# Altium footprint library Lib.PcbLib: 18 footprints (part 2 of 2)
Each footprint in its own frame and in the unit in brackets; x right, y up, seen from the top. Pads: shape width x height; smd on the part's side, far side on the other; paste and mask are expansions set on the pad; w line width, h text height; cw(c..) or ccw(c..) is an arc to the next point about the centre after c.
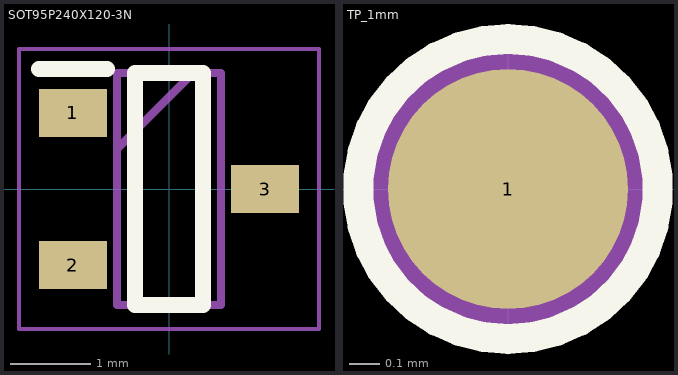
[diagram p1: the footprints below, top view; thin cyan lines are the x and y axes]

## SOT95P240X120-3N [mm]
pads (3):
  rect 0.85x0.6 smd: 1(-1.2,0.95) 2(-1.2,-0.95) 3(1.2,0)
Top Overlay:
  lines w0.2: -1.625,1.5 -0.775,1.5 ; -0.425,-1.45 -0.425,1.45 0.425,1.45 0.425,-1.45 -0.425,-1.45
Mechanical 13:
  lines w0.1: -0.65,0.5 0.3,1.45 ; -0.65,-1.45 -0.65,1.45 0.65,1.45 0.65,-1.45 -0.65,-1.45
Mechanical 15:
  lines w0.05: -1.875,-1.75 -1.875,1.75 1.875,1.75 1.875,-1.75 -1.875,-1.75
3D body "BAV99-7-F.stp": height 1.2, standoff 0, extent -1.2,-1.45 1.2,1.45

## TP_1mm [mm]
pads (1):
  round 0.8 smd: 1(0,0)
Top Overlay:
  lines w0.1: 0,-0.5 ccw(c0,0) 0,0.5 ccw(c0,0) 0,-0.5
Mechanical 13:
  lines w0.2: -0.4,0 cw(c0,0) 0.4,0 cw(c0,0) -0.4,0